# Altium footprint library Footprint.PcbLib: 139 footprints (part 1 of 9)
Each footprint in its own frame and in the unit in brackets; x right, y up, seen from the top. Pads: shape width x height; smd on the part's side, far side on the other; paste and mask are expansions set on the pad; w line width, h text height; cw(c..) or ccw(c..) is an arc to the next point about the centre after c.
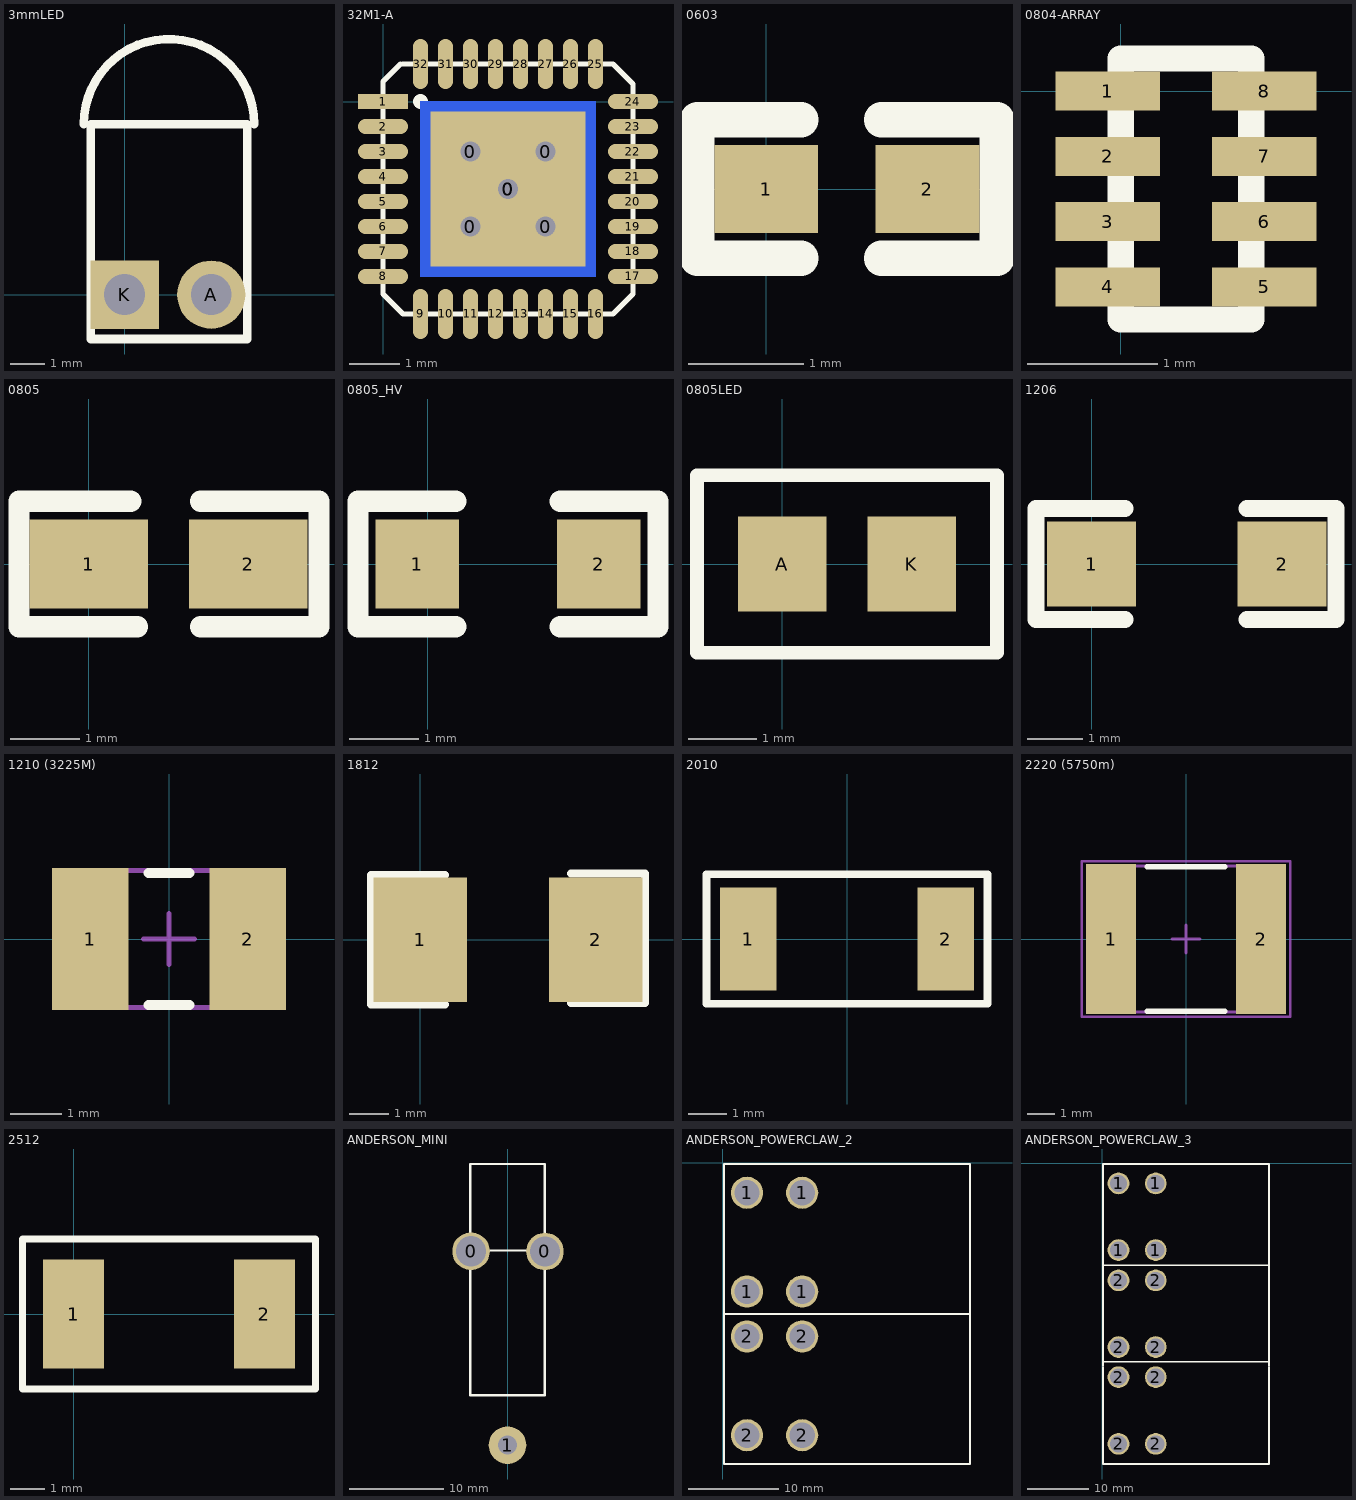
[diagram p0: the footprints below, top view; thin cyan lines are the x and y axes]

## 3mmLED [mm]
pads (2):
  round 2 hole 1.2: A(2.54,0)
  rect 2x2 hole 1.2: K(0,0)
TopOverlay:
  lines w0.254: -1.2,5 cw(c1.3,5) 3.8,5 ; -1,5 -1,-1.3 3.6,-1.3 3.6,5 -0.99,5

## 32M1-A [mm]
pads (40):
  round 1.2 hole 0.4: 0(1.75,-2.5) 0(1.75,-1) 0(2.5,-1.75) 0(3.25,-2.5) 0(3.25,-1)
  rect 3.1x3.1 smd: 0(2.5,-1.75)
  rect 3.5x3.5 smd far side: 0(2.5,-1.75)
  rect 1x0.3 smd: 1(0,0)
  oval 1x0.3 smd: 2(0,-0.5) 3(0,-1) 4(0,-1.5) 5(0,-2) 6(0,-2.5) 7(0,-3) 8(0,-3.5) 17(5,-3.5) 18(5,-3) 19(5,-2.5) 20(5,-2) 21(5,-1.5) 22(5,-1) 23(5,-0.5) 24(5,0)
  oval 0.3x1 smd: 9(0.75,-4.25) 10(1.25,-4.25) 11(1.75,-4.25) 12(2.25,-4.25) 13(2.75,-4.25) 14(3.25,-4.25) 15(3.75,-4.25) 16(4.25,-4.25) 25(4.25,0.75) 26(3.75,0.75) 27(3.25,0.75) 28(2.75,0.75) 29(2.25,0.75) 30(1.75,0.75) 31(1.25,0.75) 32(0.75,0.75)
  round 0.3 on Top Overlay: ""(0.75,0)
TopOverlay:
  lines w0.1: 0.35,0.75 0,0.4 0,0.35 0,-3.85 0.4,-4.25 4.6,-4.25 5,-3.85 5,0.35 4.6,0.75 0.4,0.75

## 0603 [mil]
pads (2):
  rect 35.43x30 smd: 1(0,0) 2(55,0)
TopOverlay:
  lines w12: 11.81,-23.62 -23.62,-23.62 -23.62,23.62 11.81,23.62 ; 39.37,-23.62 78.74,-23.62 78.74,23.62 39.37,23.62

## 0804-ARRAY [mm]
pads (8):
  rect 0.8x0.3 smd: 1(-0.1,0) 2(-0.1,-0.5) 3(-0.1,-1) 4(-0.1,-1.5) 5(1.1,-1.5) 6(1.1,-1) 7(1.1,-0.5) 8(1.1,0)
TopOverlay:
  lines w0.2: 0,-1.75 1,-1.75 1,0.25 0,0.25 0,-1.75

## 0805 [mm]
pads (2):
  rect 1.7x1.27 smd: 1(0,0) 2(2.286,0)
TopOverlay:
  lines w0.305: 0.6,0.9 -1,0.9 -1,-0.9 0.7,-0.9 ; 1.6,-0.9 3.3,-0.9 3.3,0.9 1.6,0.9

## 0805_HV [mm]
pads (2):
  rect 1.2x1.27 smd: 1(-0.15,0) 2(2.45,0)
TopOverlay:
  lines w0.305: 0.4,-0.9 -1,-0.9 -1,0.9 0.4,0.9 ; 1.9,-0.9 3.3,-0.9 3.3,0.9 1.9,0.9

## 0805LED [mm]
pads (2):
  rect 1.3x1.4 smd: A(0,0) K(1.9,0)
TopOverlay:
  lines w0.2: -1.25,-1.3 3.15,-1.3 3.15,1.3 -1.25,1.3 -1.25,-1.3

## 1206 [mil]
pads (2):
  rect 62.99x60 smd: 1(0,0) 2(135,0)
TopOverlay:
  lines w12: 23.62,-39.37 -39.37,-39.37 -39.37,39.37 23.62,39.37 ; 110.24,-39.37 173.23,-39.37 173.23,39.37 110.24,39.37

## 1210 (3225M) [mm] "Chip Capacitor, Body 3.2x2.5mm, IPC Low Density"
height 1.35
pads (2):
  rect 1.5x2.8 smd: 1(-1.55,0) 2(1.55,0)
TopOverlay:
  lines w0.2: -0.4,-1.3 0.4,-1.3 ; -0.4,1.3 0.4,1.3
Mechanical13:
  lines w0.1: -1.7,-1.35 -1.7,1.35 1.7,1.35 1.7,-1.35 -1.7,-1.35
Mechanical15:
  lines w0.1: -0.5,0 0.5,0 ; 0,-0.5 0,0.5
3D body: height 1.35, standoff 0, extent -1.7,-1.35 1.7,1.35

## 1812 [mm]
pads (2):
  rect 2.4x3.2 smd: 1(0,0) 2(4.5,0)
TopOverlay:
  lines w0.203: 0.635,-1.659 -1.27,-1.659 -1.27,1.659 0.635,1.659 ; 3.864,-1.618 5.769,-1.618 5.769,1.7 3.864,1.7

## 2010 [mm]
pads (2):
  rect 1.5x2.7 smd: 1(-2.6,0) 2(2.6,0)
TopOverlay:
  lines w0.2: -3.7,-0.8 -3.7,1.7 3.7,1.7 3.7,-1.7 -3.7,-1.7 -3.7,0.8

## 2220 (5750m) [mm] "Chip Capacitor, Body 5.7x5.0mm, IPC Low Density"
height 1.35
pads (2):
  rect 1.8x5.4 smd: 1(-2.7,0) 2(2.7,0)
TopOverlay:
  lines w0.2: -1.4,-2.6 1.4,-2.6 ; -1.4,2.6 1.4,2.6
Mechanical13:
  lines w0.1: -2.95,-2.625 -2.95,2.625 2.95,2.625 2.95,-2.625 -2.95,-2.625
Mechanical15:
  lines w0.1: -0.5,0 0.5,0 ; 0,-0.5 0,0.5 ; -3.75,-2.8 -3.75,2.8 3.75,2.8 3.75,-2.8 -3.75,-2.8
3D body: height 1.35, standoff 0, extent -2.95,-2.625 2.95,2.625

## 2512 [mm]
pads (2):
  rect 1.8x3.2 smd: 1(0,0) 2(5.6,0)
TopOverlay:
  lines w0.2: -1.5,-2.2 -1.5,2.2 7.1,2.2 7.1,-2.2 -1.5,-2.2

## ANDERSON_MINI [mm]
height 10
pads (3):
  round 4 hole 3.2: 0(-3.878,34.221) 0(3.981,34.195)
  round 4 hole 2.032: 1(0,13.589)
TopOverlay:
  lines w0.254: -3.95,33.05 ccw(c-3.95,34.3) -3.95,35.55 ; -3.95,34.3 3.95,34.29 ; 3.95,33.05 cw(c3.95,34.3) 3.95,35.55 ; -3.95,18.9 -3.95,43.5 3.95,43.5 3.95,18.9 -3.95,18.9

## ANDERSON_POWERCLAW_2 [mil]
pads (8):
  round 140 hole 110: 1(105.91,-560.12) 1(105.91,-130.12) 1(345.91,-560.12) 1(345.91,-130.12) 2(105.91,-1185.12) 2(105.91,-755.12) 2(345.91,-1185.12) 2(345.91,-755.12)
TopOverlay:
  lines w10: 5.91,-657.62 1075.91,-657.62 ; 5.91,-1310.12 5.91,-5.12 1075.91,-5.12 1075.91,-1310.12 5.91,-1310.12

## ANDERSON_POWERCLAW_3 [mil]
pads (12):
  round 140 hole 110: 1(105.91,-560.12) 1(105.91,-130.12) 1(345.91,-560.12) 1(345.91,-130.12) 2(105.91,-1809.13) 2(105.91,-1379.13) 2(105.91,-1185.12) 2(105.91,-755.12) 2(345.91,-1809.13) 2(345.91,-1379.13) 2(345.91,-1185.12) 2(345.91,-755.12)
TopOverlay:
  lines w10: 5.91,-1317.07 5.91,-1938.98 1075.91,-1938.98 1075.91,-1317.07 ; 5.91,-1310.12 5.91,-5.12 1075.91,-5.12 1075.91,-1310.12 ; 5.91,-1280.59 1075.91,-1280.59 ; 5.91,-657.62 1075.91,-657.62